# EAGLE library part AD633 (library HomeMade)
AD633 Analog Multiplier / 03-06-2006 / MarioBlunk@gmx.net
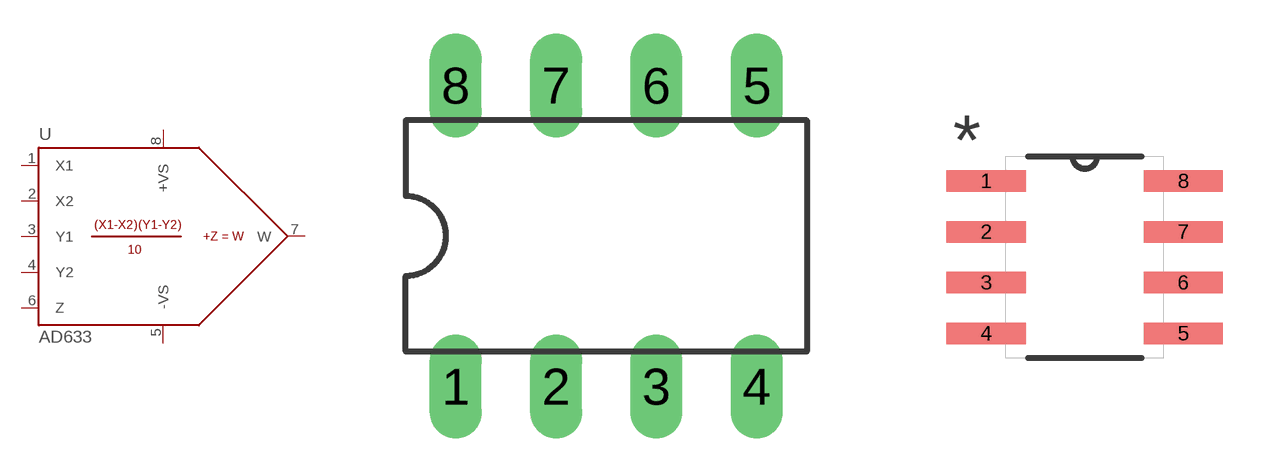
[diagram p4: symbol with the pads of DIL08; footprints DIL08, SOIC8]

Designator prefix -

## AD633_DIL  [DIL08]
1  X1  in
2  X2  in
3  Y1  in
4  Y2  in
5  -VS  pwr
6  Z  in
7  W  out
8  +VS  pwr

## AD633_SOIC  [SOIC8]
1  Y1  in
2  Y2  in
3  -VS  pwr
4  Z  in
5  W  out
6  +VS  pwr
7  X1  in
8  X2  in

## Footprint DIL08 (pad centres in mm)
Dual In Line Package
drill 0.813 long: 1 -3.81,-3.81; 2 -1.27,-3.81; 3 1.27,-3.81; 4 3.81,-3.81; 5 3.81,3.81; 6 1.27,3.81; 7 -1.27,3.81; 8 -3.81,3.81

## Footprint SOIC8 (pad centres in mm)
smd 1.981 x 0.533: 1 -2.464,1.905; 2 -2.464,0.635; 3 -2.464,-0.635; 4 -2.464,-1.905; 5 2.464,-1.905; 6 2.464,-0.635; 7 2.464,0.635; 8 2.464,1.905